# EAGLE library part D-SUB9- (library con-thomas-betts)
D-Subminiatur Connector Source: Electronioc Interconnects European Edition 1998
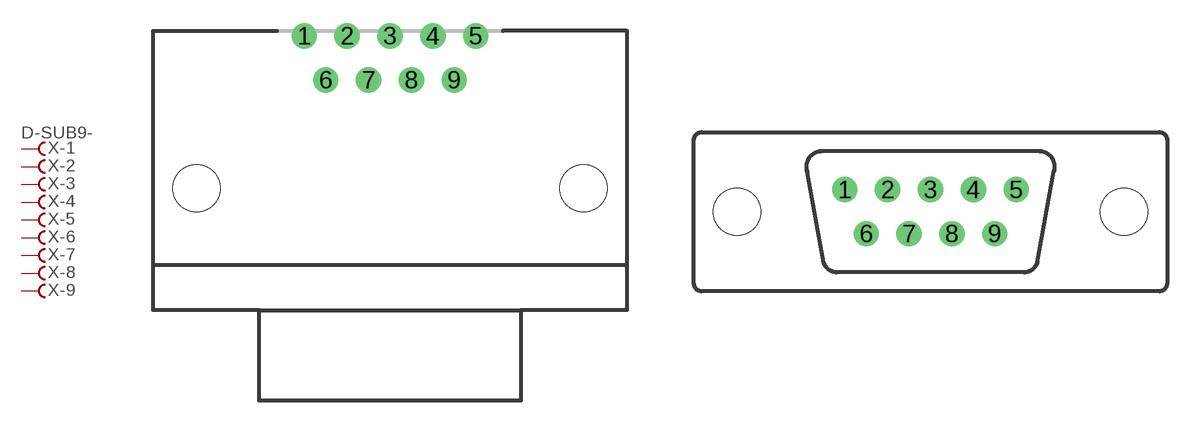
[diagram p19: symbol with the pads of H2M09RA; footprints H2M09RA, H2M09ST]

Designator prefix X; gates -1=FV -2=F -3=F -4=F -5=F -6=F -7=F -8=F -9=F

## D-SUB9-H2M09RA (OC_FARNELL: unknown; OC_NEWARK: unknown)  [H2M09RA]
1  -1:F  pas
2  -2:F  pas
3  -3:F  pas
4  -4:F  pas
5  -5:F  pas
6  -6:F  pas
7  -7:F  pas
8  -8:F  pas
9  -9:F  pas

## D-SUB9-H2M09ST (OC_FARNELL: unknown; OC_NEWARK: unknown)  [H2M09ST]
Pads as for H2M09RA

## D-SUB9-H2R09RA (OC_FARNELL: unknown; OC_NEWARK: unknown)  [H2R09RA]
Pads as for H2M09RA

## D-SUB9-H2R09ST (OC_FARNELL: unknown; OC_NEWARK: unknown)  [H2R09ST]
Pads as for H2M09RA

## D-SUB9-H3M09RA (OC_FARNELL: unknown; OC_NEWARK: unknown)  [H3M09RA]
Pads as for H2M09RA

## D-SUB9-H5M09RA (OC_FARNELL: unknown; OC_NEWARK: unknown)  [H5M09RA]
Pads as for H2M09RA

## Footprint H2M09RA (pad centres in mm)
THOMAS&BETTS H2M09RA29A
drill 1.092: 1 -5.537,7.925; 2 -2.769,7.925; 3 0,7.925; 4 2.769,7.925; 5 5.537,7.925; 6 -4.153,5.08; 7 -1.384,5.08; 8 1.384,5.08; 9 4.153,5.08
hole 3.048 at -12.497,-1.905
hole 3.048 at 12.497,-1.905

## Footprint H2M09ST (pad centres in mm)
THOMAS&BETTS H2M09ST29x
drill 1.092: 1 -5.537,1.422; 2 -2.769,1.422; 3 0,1.422; 4 2.769,1.422; 5 5.537,1.422; 6 -4.153,-1.422; 7 -1.384,-1.422; 8 1.384,-1.422; 9 4.153,-1.422
hole 3.048 at -12.497,0
hole 3.048 at 12.497,0

## Footprint H2R09RA (pad centres in mm)
THOMAS&BETTS H2R09RA29A
drill 1.092: 1 5.537,7.925; 2 2.769,7.925; 3 0,7.925; 4 -2.769,7.925; 5 -5.537,7.925; 6 4.153,5.08; 7 1.384,5.08; 8 -1.384,5.08; 9 -4.153,5.08
hole 3.048 at -12.497,-1.905
hole 3.048 at 12.497,-1.905

## Footprint H2R09ST (pad centres in mm)
THOMAS&BETTS H2R09ST29x
drill 1.092: 1 5.537,1.422; 2 2.769,1.422; 3 0,1.422; 4 -2.769,1.422; 5 -5.537,1.422; 6 4.153,-1.422; 7 1.384,-1.422; 8 -1.384,-1.422; 9 -4.153,-1.422
hole 3.048 at -12.497,0
hole 3.048 at 12.497,0

## Footprint H3M09RA (pad centres in mm)
THOMAS&BETTS H3M09RA29A
drill 1.092: 1 -5.537,1.422; 2 -2.769,1.422; 3 0,1.422; 4 2.769,1.422; 5 5.537,1.422; 6 -4.153,-1.422; 7 -1.384,-1.422; 8 1.384,-1.422; 9 4.153,-1.422
hole 3.048 at -12.497,0
hole 3.048 at 12.497,0

## Footprint H5M09RA (pad centres in mm)
THOMAS&BETTS H5M09RA29A
drill 1.092: 1 -5.537,1.422; 2 -2.769,1.422; 3 0,1.422; 4 2.769,1.422; 5 5.537,1.422; 6 -4.153,-1.422; 7 -1.384,-1.422; 8 1.384,-1.422; 9 4.153,-1.422
hole 3.048 at -12.497,0
hole 3.048 at 12.497,0